# EAGLE library part AK700/11-5.0-V-GREEN (library con-ptr-AK700)
PCB Screw Terminal AK700, 11-pin 5.0 pitch
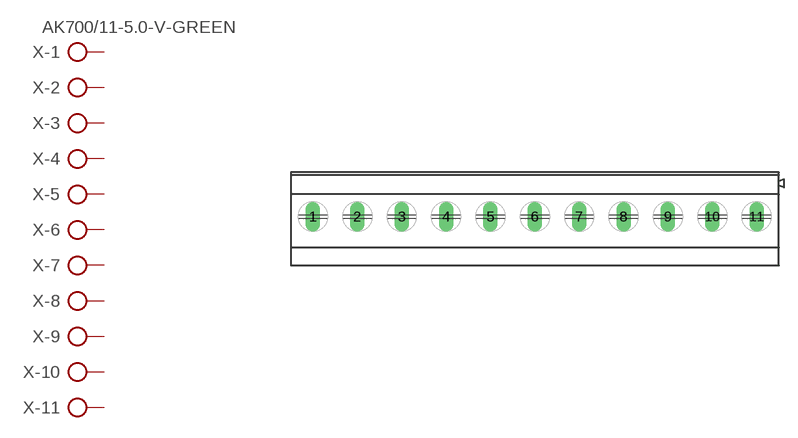
[diagram p5: symbol with the pads of AK700/11-5.0-V-GREEN; footprint AK700/11-5.0-V-GREEN]

Designator prefix X; gates -1=KLV -2=KL -3=KL -4=KL -5=KL -6=KL -7=KL -8=KL -9=KL -10=KL -11=KL

## AK700/11-5.0-V-GREEN (MF: PTR Hartmann; MPN: 50700110201)  [AK700/11-5.0-V-GREEN]
1  -1:KL  pas
2  -2:KL  pas
3  -3:KL  pas
4  -4:KL  pas
5  -5:KL  pas
6  -6:KL  pas
7  -7:KL  pas
8  -8:KL  pas
9  -9:KL  pas
10  -10:KL  pas
11  -11:KL  pas

## Footprint AK700/11-5.0-V-GREEN (pad centres in mm)
PCB Screw Terminal AK700, 11-pin 5.0 pitch
drill 1.1 long: 1 -25,0; 2 -20,0; 3 -15,0; 4 -10,0; 5 -5,0; 6 0,0; 7 5,0; 8 10,0; 9 15,0; 10 20,0; 11 25,0